# Altium schematic symbol library Micrel_KS8999.SchLib: 1 symbol
Pins are listed as number, name and electrical type; pins without a type are passive.

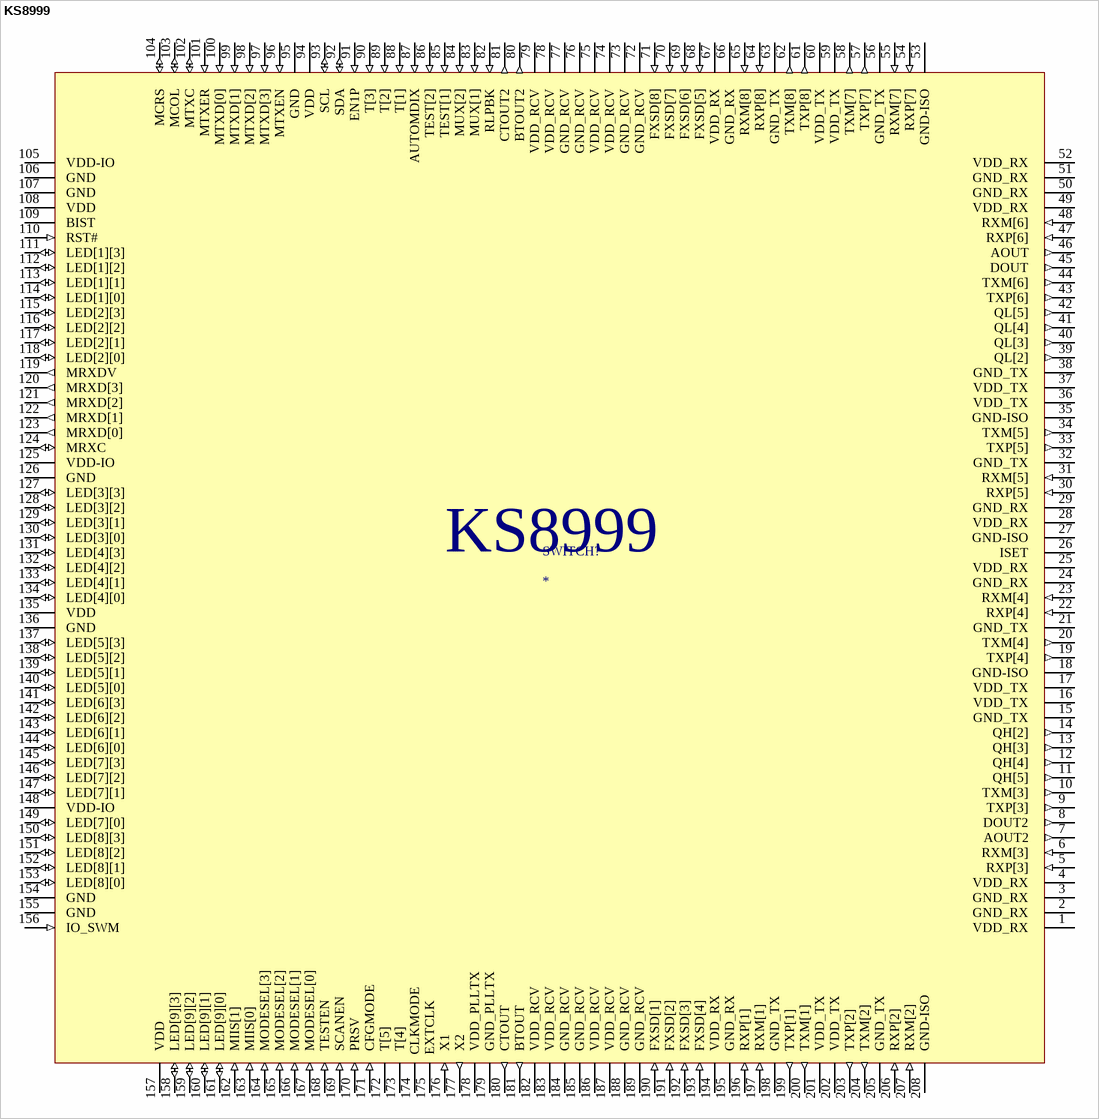
[diagram p0: symbol KS8999]

## KS8999
designator SWITCH?
footprint Model Name (Footprint not found)
footprint pqfp108 (SQFP, 208-Leads, Body 31.2x31.2mm (max), Pitch 0.50mm, IPC Medium Density)
signal-integrity model Model Name (Model Description)
pins: 1  VDD_RX   (power) "2.0V for equalizer", 2  GND_RX   (power) "Ground for equalizer", 3  GND_RX   (power) "Ground for equalizer", 4  VDD_RX   (power) "2.0V for equalizer", 5  RXP[3]   (in) "Physical receive signal + (differential)", 6  RXM[3]   (in) "Physical receive signal - (differential)", 7  AOUT2   (out) "Factory test output", 8  DOUT2   (out) "Factory test output", 9  TXP[3]   (out) "Physical transmit signal + (differential)", 10  TXM[3]   (out) "Physical transmit signal - (differential)", 11  QH[5]   (out) "Factory test pin – leave open for normal operation", 12  QH[4]   (out) "Factory test pin – leave open for normal operation", 13  QH[3]   (out) "Factory test pin – leave open for normal operation", 14  QH[2]   (out) "Factory test pin – leave open for normal operation", 15  GND_TX   (power) "Ground for transmit circuitry", 16  VDD_TX   (power) "2.0V for transmit circuitry", 17  VDD_TX   (power) "2.0V for transmit circuitry", 18  GND-ISO   (power) "Analog ground", 19  TXP[4]   (out) "Physical transmit signal + (differential)", 20  TXM[4]   (out) "Physical transmit signal - (differential)", 21  GND_TX   (power) "Ground for transmit circuitry", 22  RXP[4]   (in) "Physical receive signal + (differential)", 23  RXM[4]   (in) "Physical receive signal - (differential)", 24  GND_RX   (power) "Ground for equalizer", 25  VDD_RX   (power) "2.0V for equalizer", 26  ISET   "Set physical transmit output current", 27  GND-ISO   (power) "Analog ground", 28  VDD_RX   (power) "2.0V for equalizer", 29  GND_RX   (power) "Ground for equalizer", 30  RXP[5]   (in) "Physical receive signal + (differential)", 31  RXM[5]   (in) "Physical receive signal - (differential)", 32  GND_TX   (power) "Ground for transmit circuitry", 33  TXP[5]   (out) "Physical transmit signal + (differential)", 34  TXM[5]   (out) "Physical transmit signal - (differential)", 35  GND-ISO   (power) "Analog ground", 36  VDD_TX   (power) "2.0V for transmit circuitry", 37  VDD_TX   (power) "2.0V for transmit circuitry", 38  GND_TX   (power) "Ground for transmit circuitry", 39  QL[2]   (out) "Factory test pin – leave open for normal operation", 40  QL[3]   (out) "Factory test pin – leave open for normal operation", 41  QL[4]   (out) "Factory test pin – leave open for normal operation", 42  QL[5]   (out) "Factory test pin – leave open for normal operation", 43  TXP[6]   (out) "Physical transmit signal + (differential)", 44  TXM[6]   (out) "Physical transmit signal - (differential)", 45  DOUT   (out) "Factory test output – leave open for normal operation", 46  AOUT   (out) "Factory test output – leave open for normal operation", 47  RXP[6]   (in) "Physical receive signal + (differential)", 48  RXM[6]   (in) "Physical receive signal - (differential)", 49  VDD_RX   (power) "2.0V for equalizer", 50  GND_RX   (power) "Ground for equalizer", 51  GND_RX   (power) "Ground for equalizer", 52  VDD_RX   (power) "2.0V for equalizer", 53  GND-ISO   (power) "Analog ground", 54  RXP[7]   (in) "Physical receive signal + (differential)", 55  RXM[7]   (in) "Physical receive signal - (differential)", 56  GND_TX   (power) "Ground for transmit circuitry", 57  TXP[7]   (out) "Physical transmit signal + (differential)", 58  TXM[7]   (out) "Physical transmit signal - (differential)", 59  VDD_TX   (power) "2.0V for transmit circuitry", 60  VDD_TX   (power) "2.0V for transmit circuitry", 61  TXP[8]   (out) "Physical transmit signal + (differential)", 62  TXM[8]   (out) "Physical transmit signal - (differential)", 63  GND_TX   (power) "Ground for transmit circuitry", 64  RXP[8]   (in) "Physical receive signal + (differential)", 65  RXM[8]   (in) "Physical receive signal - (differential)", 66  GND_RX   (power) "Ground for equalizer", 67  VDD_RX   (power) "2.0V for equalizer", 68  FXSD[5]   (in) "Fiber signal detect", 69  FXSD[6]   (in) "Fiber signal detect", 70  FXSD[7]   (in) "Fiber signal detect", 71  FXSD[8]   (in) "Fiber signal detect", 72  GND_RCV   (power) "Ground for clock recovery circuit", 73  GND_RCV   (power) "Ground for clock recovery circuit", 74  VDD_RCV   (power) "2.0V for clock recovery circuit", 75  VDD_RCV   (power) "2.0V for clock recovery circuit", 76  GND_RCV   (power) "Ground for clock recovery circuit", 77  GND_RCV   (power) "Ground for clock recovery circuit", 78  VDD_RCV   (power) "2.0V for clock recovery circuit", 79  VDD_RCV   (power) "2.0V for clock recovery circuit", 80  BTOUT2   (out) "Factory test pin – leave open for normal operation", 81  CTOUT2   (out) "Factory test pin – leave open for normal operation", 82  RLPBK   (in) "Enable loop back for testing – pull-down/float for normal operation", 83  MUX[1]   (in) "Factory test pin – float for normal operation", 84  MUX[2]   (in) "Factory test pin – float for normal operation", 85  TEST[1]   (in) "Factory test pin – float for normal operation", 86  TEST[2]   (in) "Factory test pin – float for normal operation", 87  AUTOMDIX   (in) "Auto MDI/MDIX enable and disable – pull-up/float enable; pull-down disable", 88  T[1]   (in) "Factory test pin – float for normal operation", 89  T[2]   (in) "Factory test pin – float for normal operation", 90  T[3]   (in) "Factory test pin – float for normal operation", 91  EN1P   (in) "Enable 802.1p for all ports", 92  SDA   (io) "Serial data from EEPROM or processor", 93  SCL   (io) "Clock for EEPROM or from processor", 94  VDD   (power) "2.0V for core digital circuitry", 95  GND   (power) "Ground for digital circuitry", 96  MTXEN   (in) "MII transmit enable", 97  MTXD[3]   (in) "MII transmit bit 3", 98  MTXD[2]   (in) "MII transmit bit 2", 99  MTXD[1]   (in) "MII transmit bit 1", 100  MTXD[0]   (in) "MII transmit bit 0", 101  MTXER   (in) "MII transmit error", 102  MTXC   (io) "MII transmit clock", 103  MCOL   (io) "MII collision detected", 104  MCRS   (io) "MII carrier sense", 105  VDD-IO   (power) "2.0V, 2.5V or 3.3V for I/O circuitry", 106  GND   (power) "Ground for digital circuitry", 107  GND   (power) "Ground for digital circuitry", 108  VDD   (power) "2.0V for core digital circuitry", 109  BIST   "Built in self test – tie low for normal operation", 110  RST#   (in) "Reset – active low", 111  LED[1][3]   (io) "LED indicator 3", 112  LED[1][2]   (io) "LED indicator 2", 113  LED[1][1]   (io) "LED indicator 1", 114  LED[1][0]   (io) "LED indicator 0", 115  LED[2][3]   (io) "LED indicator 3", 116  LED[2][2]   (io) "LED indicator 2", 117  LED[2][1]   (io) "LED indicator 1", 118  LED[2][0]   (io) "LED indicator 0", 119  MRXDV   (out) "MII receive data valid", 120  MRXD[3]   (out) "MII receive bit 3", 121  MRXD[2]   (out) "MII receive bit 2", 122  MRXD[1]   (out) "MII receive bit 1", 123  MRXD[0]   (out) "MII receive bit 0", 124  MRXC   (io) "MII receive clock", 125  VDD-IO   (power) "2.0V, 2.5V or 3.3V for I/O circuitry", 126  GND   (power) "Ground for digital circuitry", 127  LED[3][3]   (io) "LED indicator 3", 128  LED[3][2]   (io) "LED indicator 2", 129  LED[3][1]   (io) "LED indicator 1", 130  LED[3][0]   (io) "LED indicator 0", 131  LED[4][3]   (io) "LED indicator 3", 132  LED[4][2]   (io) "LED indicator 2", 133  LED[4][1]   (io) "LED indicator 1", 134  LED[4][0]   (io) "LED indicator 0", 135  VDD   (power) "2.0V for core digital circuitry", 136  GND   (power) "Ground for digital circuitry", 137  LED[5][3]   (io) "LED indicator 3", 138  LED[5][2]   (io) "LED indicator 2", 139  LED[5][1]   (io) "LED indicator 1", 140  LED[5][0]   (io) "LED indicator 0", 141  LED[6][3]   (io) "LED indicator 3", 142  LED[6][2]   (io) "LED indicator 2", 143  LED[6][1]   (io) "LED indicator 1", 144  LED[6][0]   (io) "LED indicator 0", 145  LED[7][3]   (io) "LED indicator 3", 146  LED[7][2]   (io) "LED indicator 2", 147  LED[7][1]   (io) "LED indicator 1", 148  VDD-IO   (power) "2.0V, 2.5V or 3.3V for I/O circuitry", 149  LED[7][0]   (io) "LED indicator 0", 150  LED[8][3]   (io) "LED indicator 3", 151  LED[8][2]   (io) "LED indicator 2", 152  LED[8][1]   (io) "LED indicator 1", 153  LED[8][0]   (io) "LED indicator 0", 154  GND   (power) "Ground for digital circuitry", 155  GND   (power) "Ground for digital circuitry", 156  IO_SWM   (in) "Factory test pin – tie high for normal operation", 157  VDD   (power) "2.0V for core digital circuitry", 158  LED[9][3]   (io) "LED indicator 3", 159  LED[9][2]   (io) "LED indicator 2", 160  LED[9][1]   (io) "LED indicator 1", 161  LED[9][0]   (io) "LED indicator 0", 162  MIIS[1]   (in) "MII mode select bit 1", 163  MIIS[0]   (in) "MII mode select bit 0", 164  MODESEL[3]   (in) "Selects LED and test modes", 165  MODESEL[2]   (in) "Selects LED and test modes", 166  MODESEL[1]   (in) "Selects LED and test modes", 167  MODESEL[0]   (in) "Selects LED and test modes", 168  TESTEN   (in) "Factory test pin – tie low for normal operation", 169  SCANEN   (in) "Factory test pin – tie low for normal operation", 170  PRSV   (in) "Reserve 6KB buffer for priority frames", 171  CFGMODE   (in) "Configures programming interface for EEPROM or processor", 172  T[5]   "Factory test pin – float for normal operation", 173  T[4]   "F/D = normal operation (default) U = disable FEF", 174 CLKMODE "Reserved – floating for normal operation", 175 EXTCLK "Reserved -floating for normal operation", 176  X1   (in) "Crystal or clock input", 177  X2   (out) "Connect to crystal", 178  VDD_PLLTX   (power) "2.0 V for phase locked loop circuit", 179  GND_PLLTX   (power) "Ground for phase locked loop circuit", 180  CTOUT   (out) "Factory test pin – leave open for normal operation", 181  BTOUT   (out) "Factory test pin – leave open for normal operation", 182  VDD_RCV   (power) "2.0V for clock recovery circuit", 183  VDD_RCV   (power) "2.0V for clock recovery circuit", 184  GND_RCV   (power) "Ground for clock recovery circuit", 185  GND_RCV   (power) "Ground for clock recovery circuit", 186  VDD_RCV   (power) "2.0V for clock recovery circuit", 187  VDD_RCV   (power) "2.0V for clock recovery circuit", 188  GND_RCV   (power) "Ground for clock recovery circuit", 189  GND_RCV   (power) "Ground for clock recovery circuit", 190  FXSD[1]   (in) "Fiber signal detect", 191  FXSD[2]   (in) "Fiber signal detect", 192  FXSD[3]   (in) "Fiber signal detect", 193  FXSD[4]   (in) "Fiber signal detect", 194  VDD_RX   (power) "2.0V for equalizer", 195  GND_RX   (power) "Ground for equalizer", 196  RXP[1]   (in) "Physical receive signal + (differential)", 197  RXM[1]   (in) "Physical receive signal - (differential)", 198  GND_TX   (power) "Ground for transmit circuitry", 199  TXP[1]   (out) "Physical transmit signal + (differential)", 200  TXM[1]   (out) "Physical transmit signal - (differential)", 201  VDD_TX   (power) "2.0V for transmit circuitry", 202  VDD_TX   (power) "2.0V for transmit circuitry", 203  TXP[2]   (out) "Physical transmit signal + (differential)", 204  TXM[2]   (out) "Physical transmit signal - (differential)", 205  GND_TX   (power) "Ground for transmit circuitry", 206  RXP[2]   (in) "Physical receive signal + (differential)", 207  RXM[2]   (in) "Physical receive signal - (differential)", 208  GND-ISO   (power) "Analog ground"